# Altium schematic symbol library MTJ-88ARX1-FSM-LG.SchLib: 1 symbol
Pins are listed as number, name and electrical type; pins without a type are passive.

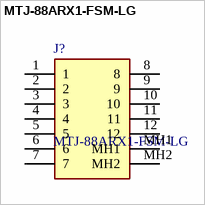
[diagram p0: symbol MTJ-88ARX1-FSM-LG]

## MTJ-88ARX1-FSM-LG
designator J?
RJ45 Modular Jack, Shielded, Dip, Side Entry,LEDs; Manufacturer_Name: Adam Tech; Geometry.Height: 13.708mm; Mouser Part Number: 737-MTJ88ARX1FSMLG; Mouser Price/Stock: https://www.mouser.co.uk/ProductDetail/Adam-Tech/MTJ-88ARX1-FSM-LG?qs=HoCaDK9Nz5cwcndn7zcdzQ%3D%3D; Manufacturer_Part_Number: MTJ-88ARX1-FSM-LG; Datasheet Link: https://www.arrow.com/en/products/mtj-88arx1-fsm-lg/adam-tech
footprint MTJ88ARX1FSMLG
pins: 1, 2, 3, 4, 5, 6, 7, 8, 9, 10, 11, 12, MH1, MH2